# Altium schematic symbol library STMicroelectronics STM32 F0.SchLib: 55 symbols (part 1 of 5)
Pins are listed as number, name and electrical type; pins without a type are passive.

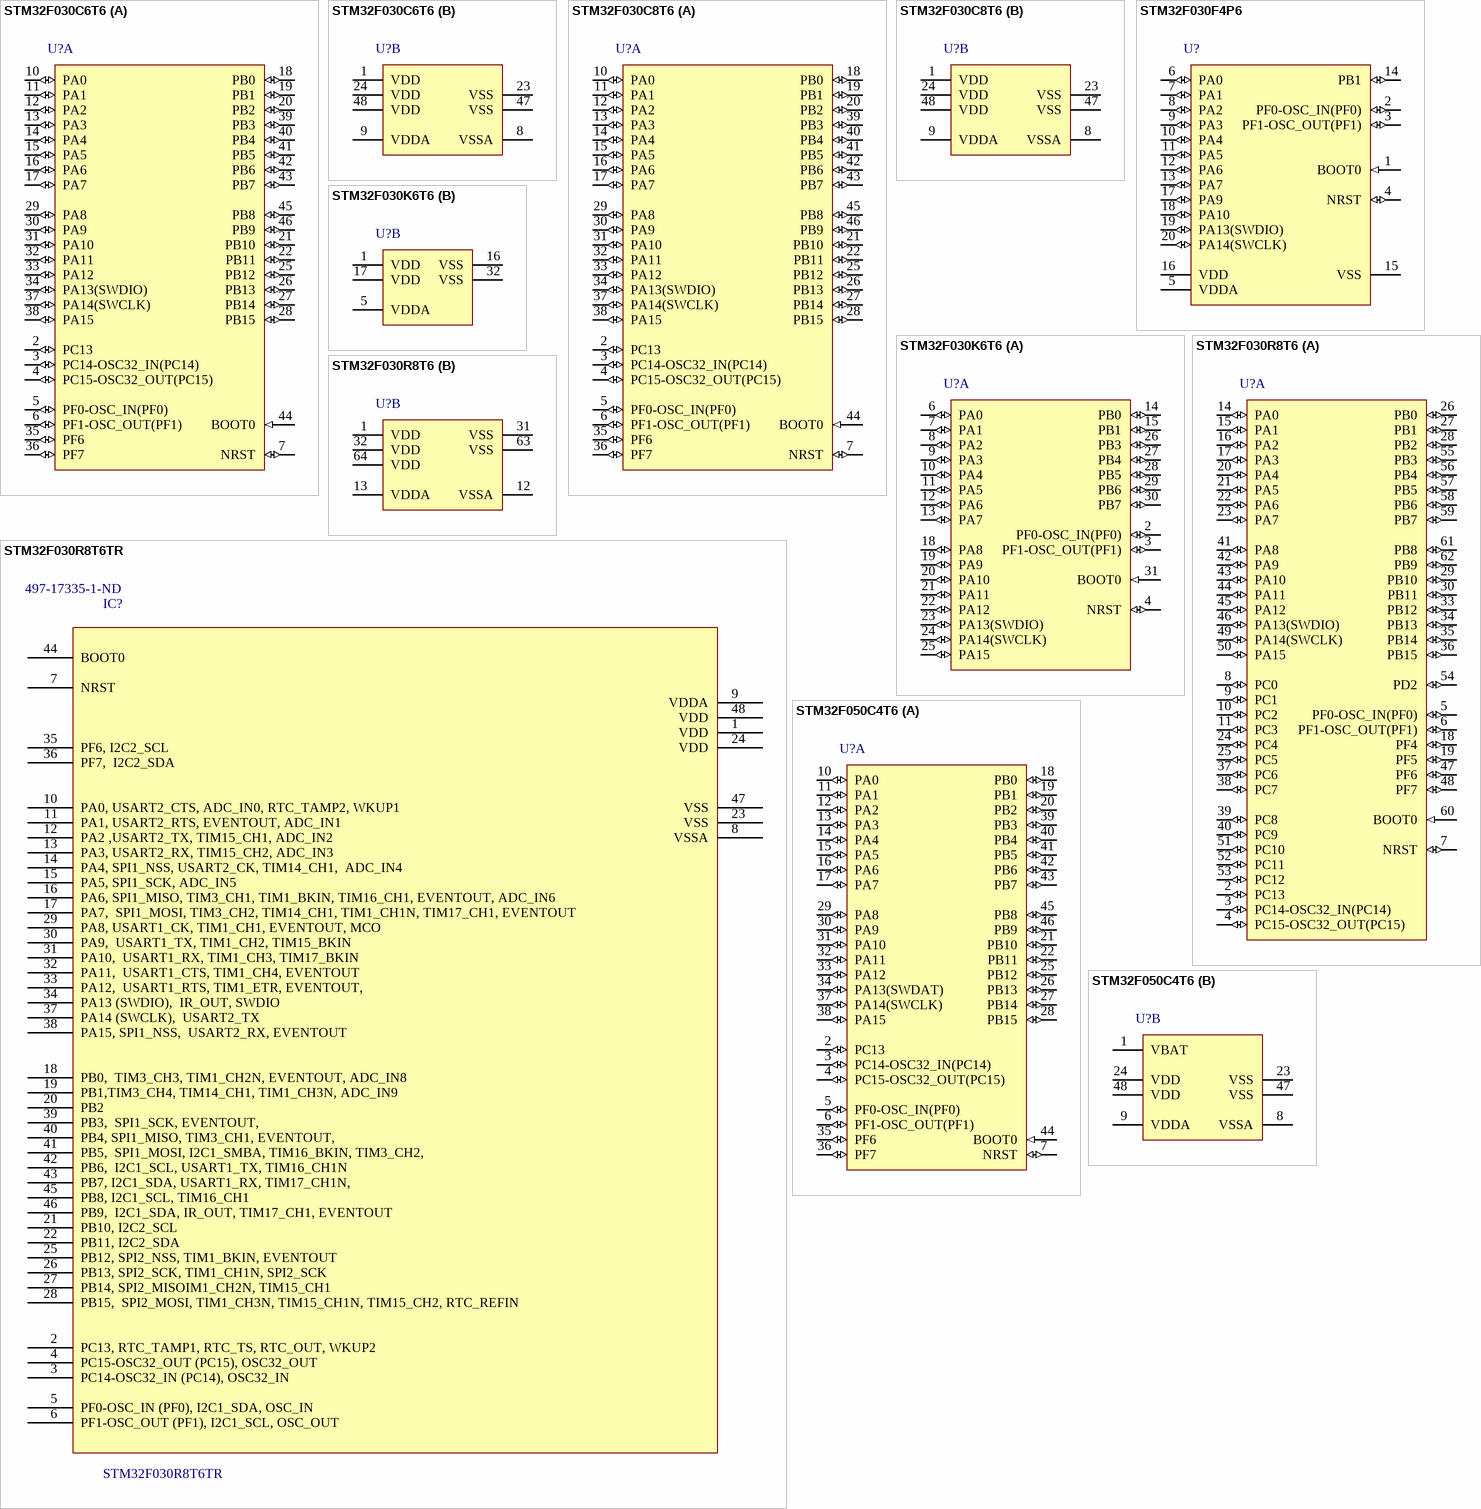
[diagram p0: symbols STM32F030C6T6 to STM32F050C4T6]

## STM32F030C6T6
designator U?
ARM Cortex-M0 32-bit MCU, 32 KB Flash, 4 KB Internal RAM, 39 I/Os, 48-pin LQFP, -40 to 85 degC, Tray; PartNumber: STM32F030C6T6; FLASH Size (Prog) (kB): 32; I/Os (High Current): 39; Internal RAM Size (kB): 4; Operating Frequency(F) (Processor speed) (MHz): 48; Supply Voltage(Vcc) min (V): 2.4; DatasheetVersion: Rev. 1; PackageVersion: Rev. 6, 06/2013; PackageReference: LQFP48; PackageDescription: 48-Pin Low Profile Quad Flat Package, 7 x 7 mm Body, 0.5 mm Pitch; Supplier 1: Digi-Key; Supplier Part Number 1: 497-14042-ND; Supplier 2: Newark; Supplier Part Number 2: 06X3646; Supplier 3: Mouser; Supplier Part Number 3: 511-STM32F030C6T6; Core: ARM Cortex-M0; Packing: Tray; Mounting Technology: Surface Mount; ComponentLink1Description: Manufacturer URL; ComponentLink1URL: http://www.st.com/web/en/home.html; ComponentLink2Description: Datasheet; ComponentLink2URL: http://www.st.com/st-web-ui/static/active/en/resource/technical/document/datasheet/DM00088500.pdf; ComponentLink3Description: Package Specification; ComponentLink3URL: http://www.st.com/st-web-ui/static/active/en/resource/technical/document/datasheet/DM00058181.pdf
footprint STM-LQFP48_N (QFP, 48-Leads, Body 7x7mm, Pitch 0.5mm, IPC Medium Density)
footprint STM-LQFP48_L (QFP, 48-Leads, Body 7x7mm, Pitch 0.5mm, IPC High Density)
footprint STM-LQFP48_M (QFP, 48-Leads, Body 7x7mm, Pitch 0.5mm, IPC Low Density)
part A pins: 2 PC13 (io) "PC13/RTC_TAMP1,RTC_TS,RTC_OUT,WKUP2", 3 PC14-OSC32_IN(PC14) (io) "PC14-OSC32_IN(PC14)/OSC32_IN", 4 PC15-OSC32_OUT(PC15) (io) "PC15-OSC32_OUT(PC15)/OSC32_OUT", 5 PF0-OSC_IN(PF0) (io) "PF0-OSC_IN(PF0)/OSC_IN", 6 PF1-OSC_OUT(PF1) (io) "PF1-OSC_OUT(PF1)/OSC_OUT", 7 NRST (io) "Device reset input / internal reset output (active low)", 10 PA0 (io) "PA0/USART1_CTS/ADC_IN0,RTC_TAMP2,WKUP1", 11 PA1 (io) "PA1/USART1_RTS,EVENTOUT/ADC_IN1", 12 PA2 (io) "PA2/USART1_TX/ADC_IN2", 13 PA3 (io) "PA3/USART1_RX/ADC_IN3", 14 PA4 (io) "PA4/SPI1_NSS,USART1_CK,TIM14_CH1/ADC_IN4", 15 PA5 (io) "PA5/SPI1_SCK/ADC_IN5", 16 PA6 (io) "PA6/SPI1_MISO,TIM3_CH1,TIM1_BKIN,TIM16_CH1,EVENTOUT/ADC_IN6", 17 PA7 (io) "PA7/SPI1_MOSI,TIM3_CH2,TIM14_CH1,TIM1_CH1N,TIM17_CH1,EVENTOUT/ADC_IN7", 18 PB0 (io) "PB0/TIM3_CH3,TIM1_CH2N,EVENTOUT/ADC_IN8", 19 PB1 (io) "PB1/TIM3_CH4,TIM14_CH1,TIM1_CH3N/ADC_IN9", 20 PB2 (io), 21 PB10 (io) "PB10/I2C1_SCL", 22 PB11 (io) "PB11/I2C1_SDA,EVENTOUT", 25 PB12 (io) "PB12/SPI1_NSS,TIM1_BKIN,EVENTOUT", 26 PB13 (io) "PB13/SPI1_SCK,TIM1_CH1N", 27 PB14 (io) "PB14/SPI1_MISO,TIM1_CH2N", 28 PB15 (io) "PB15/SPI1_MOSI,TIM1_CH3N/RTC_REFIN", 29 PA8 (io) "PA8/USART1_CK,TIM1_CH1,EVENTOUT,MCO", 30 PA9 (io) "PA9/USART1_TX,TIM1_CH2,I2C1_SCL", 31 PA10 (io) "PA10/USART1_RX,TIM1_CH3,TIM17_BKIN,I2C1_SDA", 32 PA11 (io) "PA11/USART1_CTS,TIM1_CH4,EVENTOUT", 33 PA12 (io) "PA12/USART1_RTS,TIM1_ETR,EVENTOUT", 34 PA13(SWDIO) (io) "PA13(SWDIO)/IR_OUT,SWDIO", 35 PF6 (io) "PF6/I2C1_SCL", 36 PF7 (io) "PF7/I2C1_SDA", 37 PA14(SWCLK) (io) "PA14(SWCLK)/USART1_TX,SWCLK", 38 PA15 (io) "PA15/SPI1_NSS,USART1_RX,EVENTOUT", 39 PB3 (io) "PB3/SPI1_SCK,EVENTOUT", 40 PB4 (io) "PB4/SPI1_MISO,TIM3_CH1,EVENTOUT", 41 PB5 (io) "PB5/SPI1_MOSI,I2C1_SMBA,TIM16_BKIN,TIM3_CH2", 42 PB6 (io) "PB6/I2C1_SCL,USART1_TX,TIM16_CH1N", 43 PB7 (io) "PB7/I2C1_SDA,USART1_RX,TIM17_CH1N", 44 BOOT0 (in) "Boot memory selection", 45 PB8 (io) "PB8/I2C1_SCL,TIM16_CH1", 46 PB9 (io) "PB9/I2C1_SDA,IR_OUT,TIM17_CH1,EVENTOUT"
part B pins: 1 VDD (power) "Complementary power supply", 8 VSSA (power) "Analog ground", 9 VDDA (power) "Analog power supply", 23 VSS (power) "Ground", 24 VDD (power) "Digital power supply", 47 VSS (power) "Ground", 48 VDD (power) "Digital power supply"

## STM32F030C8T6
designator U?
ARM Cortex-M0 32-bit MCU, 64 KB Flash, 8 KB Internal RAM, 39 I/Os, 48-pin LQFP, -40 to 85 degC, Tray; PartNumber: STM32F030C8T6; FLASH Size (Prog) (kB): 64; I/Os (High Current): 39; Internal RAM Size (kB): 8; Operating Frequency(F) (Processor speed) (MHz): 48; Supply Voltage(Vcc) min (V): 2.4; DatasheetVersion: Rev. 1; PackageVersion: Rev. 6, 06/2013; PackageReference: LQFP48; PackageDescription: 48-Pin Low Profile Quad Flat Package, 7 x 7 mm Body, 0.5 mm Pitch; Supplier 1: Digi-Key; Supplier Part Number 1: 497-14043-ND; Supplier 2: Newark; Supplier Part Number 2: 06X3647; Supplier 3: Mouser; Supplier Part Number 3: 511-STM32F030C8T6; Core: ARM Cortex-M0; Packing: Tray; Mounting Technology: Surface Mount; ComponentLink1Description: Manufacturer URL; ComponentLink1URL: http://www.st.com/web/en/home.html; ComponentLink2Description: Datasheet; ComponentLink2URL: http://www.st.com/st-web-ui/static/active/en/resource/technical/document/datasheet/DM00088500.pdf; ComponentLink3Description: Package Specification; ComponentLink3URL: http://www.st.com/st-web-ui/static/active/en/resource/technical/document/datasheet/DM00058181.pdf
footprint STM-LQFP48_N (QFP, 48-Leads, Body 7x7mm, Pitch 0.5mm, IPC Medium Density)
footprint STM-LQFP48_L (QFP, 48-Leads, Body 7x7mm, Pitch 0.5mm, IPC High Density)
footprint STM-LQFP48_M (QFP, 48-Leads, Body 7x7mm, Pitch 0.5mm, IPC Low Density)
part A pins: 2 PC13 (io) "PC13/RTC_TAMP1,RTC_TS,RTC_OUT,WKUP2", 3 PC14-OSC32_IN(PC14) (io) "PC14-OSC32_IN(PC14)/OSC32_IN", 4 PC15-OSC32_OUT(PC15) (io) "PC15-OSC32_OUT(PC15)/OSC32_OUT", 5 PF0-OSC_IN(PF0) (io) "PF0-OSC_IN(PF0)/OSC_IN", 6 PF1-OSC_OUT(PF1) (io) "PF1-OSC_OUT(PF1)/OSC_OUT", 7 NRST (io) "Device reset input / internal reset output (active low)", 10 PA0 (io) "PA0/USART2_CTS/ADC_IN0,RTC_TAMP2,WKUP1", 11 PA1 (io) "PA1/USART2_RTS,EVENTOUT/ADC_IN1", 12 PA2 (io) "PA2/USART2_TX,TIM15_CH1/ADC_IN2", 13 PA3 (io) "PA3/USART2_RX,TIM15_CH2/ADC_IN3", 14 PA4 (io) "PA4/SPI1_NSS/USART2_CK,TIM14_CH1/ADC_IN4", 15 PA5 (io) "PA5/SPI1_SCK/ADC_IN5", 16 PA6 (io) "PA6/SPI1_MISO,TIM3_CH1,TIM1_BKIN,TIM16_CH1,EVENTOUT/ADC_IN6", 17 PA7 (io) "PA7/SPI1_MOSI,TIM3_CH2,TIM14_CH1,TIM1_CH1N,TIM17_CH1,EVENTOUT/ADC_IN7", 18 PB0 (io) "PB0/TIM3_CH3,TIM1_CH2N,EVENTOUT/ADC_IN8", 19 PB1 (io) "PB1/TIM3_CH4,TIM14_CH1,TIM1_CH3N/ADC_IN9", 20 PB2 (io), 21 PB10 (io) "PB10/I2C2_SCL", 22 PB11 (io) "PB11/I2C2_SDA,EVENTOUT", 25 PB12 (io) "PB12/SPI2_NSS,TIM1_BKIN,EVENTOUT", 26 PB13 (io) "PB13/SPI2_SCK,TIM1_CH1N", 27 PB14 (io) "PB14/SPI2_MISO,TIM1_CH2N,TIM15_CH1", 28 PB15 (io) "PB15/SPI2_MOSI,TIM1_CH3N,TIM15_CH1N,TIM15_CH2/RTC_REFIN", 29 PA8 (io) "PA8/USART1_CK,TIM1_CH1,EVENTOUT,MCO", 30 PA9 (io) "PA9/USART1_TX,TIM1_CH2,TIM15_BKIN", 31 PA10 (io) "PA10/USART1_RX,TIM1_CH3,TIM17_BKIN", 32 PA11 (io) "PA11/USART1_CTS,TIM1_CH4,EVENTOUT", 33 PA12 (io) "PA12/USART1_RTS,TIM1_ETR,EVENTOUT", 34 PA13(SWDIO) (io) "PA13(SWDIO)/IR_OUT,SWDIO", 35 PF6 (io) "PF6/I2C2_SCL", 36 PF7 (io) "PF7/I2C2_SDA", 37 PA14(SWCLK) (io) "PA14(SWCLK)/USART2_TX,SWCLK", 38 PA15 (io) "PA15/SPI1_NSS,USART2_RX,EVENTOUT", 39 PB3 (io) "PB3/SPI1_SCK,EVENTOUT", 40 PB4 (io) "PB4/SPI1_MISO,TIM3_CH1,EVENTOUT", 41 PB5 (io) "PB5/SPI1_MOSI,I2C1_SMBA,TIM16_BKIN,TIM3_CH2", 42 PB6 (io) "PB6/I2C1_SCL,USART1_TX,TIM16_CH1N", 43 PB7 (io) "PB7/I2C1_SDA,USART1_RX,TIM17_CH1N", 44 BOOT0 (in) "Boot memory selection", 45 PB8 (io) "PB8/I2C1_SCL,TIM16_CH1", 46 PB9 (io) "PB9/I2C1_SDA,IR_OUT,TIM17_CH1,EVENTOUT"
part B pins: 1 VDD (power) "Digital power supply", 8 VSSA (power) "Analog ground", 9 VDDA (power) "Analog power supply", 23 VSS (power) "Ground", 24 VDD (power) "Digital power supply", 47 VSS (power) "Ground", 48 VDD (power) "Digital power supply"

## STM32F030F4P6
designator U?
ARM Cortex-M0 32-bit MCU, 16 KB Flash, 4 KB Internal RAM, 15 I/Os, 20-pin TSSOP, -40 to 85 degC, Tube; PartNumber: STM32F030F4P6; FLASH Size (Prog) (kB): 16; I/Os (High Current): 15; Internal RAM Size (kB): 4; Operating Frequency(F) (Processor speed) (MHz): 48; Supply Voltage(Vcc) min (V): 2.4; DatasheetVersion: Rev. 1; PackageVersion: Rev. 1, 11/2012; PackageReference: TSSOP20; PackageDescription: 20-Pin Thin Shrink Small Outline Package, 6.5 x 4.4 mm Body, 0.65 mm Pitch; Supplier 1: Digi-Key; Supplier Part Number 1: 497-14044-5-ND; Supplier 2: Newark; Supplier Part Number 2: 06X3648; Supplier 3: Mouser; Supplier Part Number 3: 511-STM32F030F4P6; Core: ARM Cortex-M0; Packing: Tube; Mounting Technology: Surface Mount; ComponentLink1Description: Manufacturer URL; ComponentLink1URL: http://www.st.com/web/en/home.html; ComponentLink2Description: Datasheet; ComponentLink2URL: http://www.st.com/st-web-ui/static/active/en/resource/technical/document/datasheet/DM00088500.pdf; ComponentLink3Description: Package Specification; ComponentLink3URL: http://www.st.com/st-web-ui/static/active/en/resource/technical/document/datasheet/DM00065136.pdf
footprint STM-TSSOP20_N (SOP, 20-Leads, Body 6.6x4.5mm, Pitch 0.65mm, IPC Medium Density)
footprint STM-TSSOP20_L (SOP, 20-Leads, Body 6.6x4.5mm, Pitch 0.65mm, IPC High Density)
footprint STM-TSSOP20_M (SOP, 20-Leads, Body 6.6x4.5mm, Pitch 0.65mm, IPC Low Density)
pins: 1 BOOT0 (in) "Boot memory selection", 2 PF0-OSC_IN(PF0) (io) "PF0-OSC_IN(PF0)/OSC_IN", 3 PF1-OSC_OUT(PF1) (io) "PF1-OSC_OUT(PF1)/OSC_OUT", 4 NRST (io) "Device reset input / internal reset output (active low)", 5 VDDA (power) "Analog power supply", 6 PA0 (io) "PA0/USART1_CTS/ADC_IN0,RTC_TAMP2,WKUP1", 7 PA1 (io) "PA1/USART1_RTS,EVENTOUT/ADC_IN1", 8 PA2 (io) "PA2/USART1_TX/ADC_IN2", 9 PA3 (io) "PA3/USART1_RX/ADC_IN3", 10 PA4 (io) "PA4/SPI1_NSS,USART1_CK,TIM14_CH1/ADC_IN4", 11 PA5 (io) "PA5/SPI1_SCK/ADC_IN5", 12 PA6 (io) "PA6/SPI1_MISO,TIM3_CH1,TIM1_BKIN,TIM16_CH1,EVENTOUT/ADC_IN6", 13 PA7 (io) "PA7/SPI1_MOSI,TIM3_CH2,TIM14_CH1,TIM1_CH1N,TIM17_CH1,EVENTOUT/ADC_IN7", 14 PB1 (io) "PB1/TIM3_CH4,TIM14_CH1,TIM1_CH3N/ADC_IN9", 15 VSS (power) "Ground", 16 VDD (power) "Digital power supply", 17 PA9 (io) "PA9/USART1_TX,TIM1_CH2,I2C1_SCL", 18 PA10 (io) "PA10/USART1_RX,TIM1_CH3,TIM17_BKIN,I2C1_SDA", 19 PA13(SWDIO) (io) "PA13(SWDIO)/IR_OUT,SWDIO", 20 PA14(SWCLK) (io) "PA14(SWCLK)/USART1_TX,SWCLK"

## STM32F030K6T6
designator U?
ARM Cortex-M0 32-bit MCU, 32 KB Flash, 4 KB Internal RAM, 26 I/Os, 32-pin LQFP, -40 to 85 degC, Tray; PartNumber: STM32F030K6T6; FLASH Size (Prog) (kB): 32; I/Os (High Current): 26; Internal RAM Size (kB): 4; Operating Frequency(F) (Processor speed) (MHz): 48; Supply Voltage(Vcc) min (V): 2.4; DatasheetVersion: Rev. 1; PackageVersion: Rev. 1, 07/2013; PackageReference: LQFP32; PackageDescription: 32-Pin Low Profile Quad Flat Package, 7 x 7 mm Body, 0.8 mm Pitch; Supplier 1: Digi-Key; Supplier Part Number 1: 497-14046-ND; Supplier 2: Newark; Supplier Part Number 2: 19X6194; Supplier 3: Mouser; Supplier Part Number 3: 511-STM32F030K6T6; Core: ARM Cortex-M0; Packing: Tray; Mounting Technology: Surface Mount; ComponentLink1Description: Manufacturer URL; ComponentLink1URL: http://www.st.com/web/en/home.html; ComponentLink2Description: Datasheet; ComponentLink2URL: http://www.st.com/st-web-ui/static/active/en/resource/technical/document/datasheet/DM00088500.pdf; ComponentLink3Description: Package Specification; ComponentLink3URL: http://www.st.com/st-web-ui/static/active/en/resource/technical/document/datasheet/DM00088500.pdf
footprint STM-LQFP32_N (QFP, 32-Leads, Body 7x7mm, Pitch 0.8mm, IPC Medium Density)
footprint STM-LQFP32_L (QFP, 32-Leads, Body 7x7mm, Pitch 0.8mm, IPC High Density)
footprint STM-LQFP32_M (QFP, 32-Leads, Body 7x7mm, Pitch 0.8mm, IPC Low Density)
part A pins: 2 PF0-OSC_IN(PF0) (io) "PF0-OSC_IN(PF0)/OSC_IN", 3 PF1-OSC_OUT(PF1) (io) "PF1-OSC_OUT(PF1)/OSC_OUT", 4 NRST (io) "Device reset input / internal reset output (active low)", 6 PA0 (io) "PA0/USART1_CTS/ADC_IN0,RTC_TAMP2,WKUP1", 7 PA1 (io) "PA1/USART1_RTS,EVENTOUT/ADC_IN1", 8 PA2 (io) "PA2/USART1_TX/ADC_IN2", 9 PA3 (io) "PA3/USART1_RX/ADC_IN3", 10 PA4 (io) "PA4/SPI1_NSS,USART1_CK,TIM14_CH1/ADC_IN4", 11 PA5 (io) "PA5/SPI1_SCK/ADC_IN5", 12 PA6 (io) "PA6/SPI1_MISO,TIM3_CH1,TIM1_BKIN,TIM16_CH1,EVENTOUT/ADC_IN6", 13 PA7 (io) "PA7/SPI1_MOSI,TIM3_CH2,TIM14_CH1,TIM1_CH1N,TIM17_CH1,EVENTOUT/ADC_IN7", 14 PB0 (io) "PB0/TIM3_CH3,TIM1_CH2N,EVENTOUT/ADC_IN8", 15 PB1 (io) "PB1/TIM3_CH4,TIM14_CH1,TIM1_CH3N/ADC_IN9", 18 PA8 (io) "PA8/USART1_CK,TIM1_CH1,EVENTOUT,MCO", 19 PA9 (io) "PA9/USART1_TX,TIM1_CH2,I2C1_SCL", 20 PA10 (io) "PA10/USART1_RX,TIM1_CH3,TIM17_BKIN,I2C1_SDA", 21 PA11 (io) "PA11/USART1_CTS,TIM1_CH4,EVENTOUT", 22 PA12 (io) "PA12/USART1_RTS,TIM1_ETR,EVENTOUT", 23 PA13(SWDIO) (io) "PA13(SWDIO)/IR_OUT,SWDIO", 24 PA14(SWCLK) (io) "PA14(SWCLK)/USART1_TX,SWCLK", 25 PA15 (io) "PA15/SPI1_NSS,USART1_RX,EVENTOUT", 26 PB3 (io) "PB3/SPI1_SCK,EVENTOUT", 27 PB4 (io) "PB4/SPI1_MISO,TIM3_CH1,EVENTOUT", 28 PB5 (io) "PB5/SPI1_MOSI,I2C1_SMBA,TIM16_BKIN,TIM3_CH2", 29 PB6 (io) "PB6/I2C1_SCL,USART1_TX,TIM16_CH1N", 30 PB7 (io) "PB7/I2C1_SDA,USART1_RX,TIM17_CH1N", 31 BOOT0 (in) "Boot memory selection"
part B pins: 1 VDD (power) "Digital power supply", 5 VDDA (power) "Analog power supply", 16 VSS (power) "Ground", 17 VDD (power) "Digital power supply", 32 VSS (power) "Ground"

## STM32F030R8T6
designator U?
ARM Cortex-M0 32-bit MCU, 64 KB Flash, 8 KB Internal RAM, 55 I/Os, 64-pin LQFP, -40 to 85 degC, Tray; PartNumber: STM32F030R8T6; FLASH Size (Prog) (kB): 64; I/Os (High Current): 55; Internal RAM Size (kB): 8; Operating Frequency(F) (Processor speed) (MHz): 48; Supply Voltage(Vcc) min (V): 2.4; DatasheetVersion: Rev. 1; PackageVersion: Rev. 4, 06/2013; PackageReference: LQFP64; PackageDescription: 64-Pin Low Profile Quad Flat Package, 10 x 10 mm Body, 0.5 mm Pitch; Supplier 1: Digi-Key; Supplier Part Number 1: 497-14045-ND; Supplier 2: Newark; Supplier Part Number 2: 06X3649; Supplier 3: Mouser; Supplier Part Number 3: 511-STM32F030R8T6; Core: ARM Cortex-M0; Packing: Tray; Mounting Technology: Surface Mount; ComponentLink1Description: Manufacturer URL; ComponentLink1URL: http://www.st.com/web/en/home.html; ComponentLink2Description: Datasheet; ComponentLink2URL: http://www.st.com/st-web-ui/static/active/en/resource/technical/document/datasheet/DM00088500.pdf; ComponentLink3Description: Package Specification; ComponentLink3URL: http://www.st.com/st-web-ui/static/active/en/resource/technical/document/datasheet/DM00037051.pdf
footprint STM-LQFP64_N (Thin QFP, 64-Leads, Body 10x10mm, Pitch 0.5mm, IPC Medium Density)
footprint STM-LQFP64_L (Thin QFP, 64-Leads, Body 10x10mm, Pitch 0.5mm, IPC High Density)
footprint STM-LQFP64_M (Thin QFP, 64-Leads, Body 10x10mm, Pitch 0.5mm, IPC Low Density)
footprint STM-LQFP64_V (Thin QFP, 64-Leads, Body 10x10mm, Pitch 0.5mm, ST Recommended)
part A pins: 2 PC13 (io), 3 PC14-OSC32_IN(PC14) (io), 4 PC15-OSC32_OUT(PC15) (io), 5 PF0-OSC_IN(PF0) (io), 6 PF1-OSC_OUT(PF1) (io), 7 NRST (io) "Device reset input / internal reset output (active low)", 8 PC0 (io) "PC0/EVENTOUT/ADC_IN10", 9 PC1 (io) "PC1/EVENTOUT/ADC_IN11", 10 PC2 (io) "PC2/EVENTOUT/ADC_IN12", 11 PC3 (io) "PC3/EVENTOUT/ADC_IN13", 14 PA0 (io) "PA0/USART2_CTS/ADC_IN0,RTC_TAMP2,WKUP1", 15 PA1 (io) "PA1/USART2_RTS,EVENTOUT/ADC_IN1", 16 PA2 (io) "PA2/USART2_TX,TIM15_CH1/ADC_IN2", 17 PA3 (io) "PA3/USART2_RX,TIM15_CH2/ADC_IN3", 18 PF4 (io) "PF4/EVENTOUT", 19 PF5 (io) "PF5/EVENTOUT", 20 PA4 (io) "PA4/SPI1_NSS,USART2_CK,TIM14_CH1/ADC_IN4", 21 PA5 (io) "PA5/SPI1_SCK/ADC_IN5", 22 PA6 (io) "PA6/SPI1_MISO,TIM3_CH1,TIM1_BKIN,TIM16_CH1,EVENTOUT/ADC_IN6", 23 PA7 (io) "PA7/SPI1_MOSI,TIM3_CH2,TIM14_CH1,TIM1_CH1N,TIM17_CH1,EVENTOUT/ADC_IN7", 24 PC4 (io) "PC4/EVENTOUT/ADC_IN14", 25 PC5 (io) "PC5/ADC_IN15", 26 PB0 (io) "PB0/TIM3_CH3,TIM1_CH2N,EVENTOUT/ADC_IN8", 27 PB1 (io) "PB1/TIM3_CH4,TIM14_CH1,TIM1_CH3N/ADC_IN9", 28 PB2 (io), 29 PB10 (io) "PB10/I2C2_SCL", 30 PB11 (io) "PB11/I2C2_SDA,EVENTOUT", 33 PB12 (io) "PB12/SPI2_NSS,TIM1_BKIN,EVENTOUT", 34 PB13 (io) "PB13/SPI2_SCK,TIM1_CH1N", 35 PB14 (io) "PB14/SPI2_MISO,TIM1_CH2N,TIM15_CH1", 36 PB15 (io) "PB15/SPI2_MOSI,TIM1_CH3N,TIM15_CH1N,TIM15_CH2/RTC_REFIN", 37 PC6 (io) "PC6/TIM3_CH1", 38 PC7 (io) "PC7/TIM3_CH2", 39 PC8 (io) "PC8/TIM3_CH3", 40 PC9 (io) "PC9/TIM3_CH4", 41 PA8 (io) "PA8/USART1_CK,TIM1_CH1,EVENTOUT,MCO", 42 PA9 (io) "PA9/USART1_TX,TIM1_CH2,TIM15_BKIN", 43 PA10 (io) "PA10/USART1_RX,TIM1_CH3,TIM17_BKIN", 44 PA11 (io) "PA11/USART1_CTS,TIM1_CH4,EVENTOUT", 45 PA12 (io) "PA12/USART1_RTS,TIM1_ETR,EVENTOUT", 46 PA13(SWDIO) (io) "PA13(SWDIO)/IR_OUT,SWDIO", 47 PF6 (io) "PF6/I2C2_SCL", 48 PF7 (io) "PF7/I2C2_SDA", 49 PA14(SWCLK) (io) "PA14(SWCLK)/USART2_TX,SWCLK", 50 PA15 (io) "PA15/SPI1_NSS,USART2_RX,EVENTOUT", 51 PC10 (io), 52 PC11 (io), 53 PC12 (io), 54 PD2 (io) "PD2/TIM3_ETR", 55 PB3 (io) "PB3/SPI1_SCK,EVENTOUT", 56 PB4 (io) "PB4/SPI1_MISO,TIM3_CH1,EVENTOUT", 57 PB5 (io) "PB5/SPI1_MOSI,I2C1_SMBA,TIM16_BKIN,TIM3_CH2", 58 PB6 (io) "PB6/I2C1_SCL,USART1_TX,TIM16_CH1N", 59 PB7 (io) "PB7/I2C1_SDA,USART1_RX,TIM17_CH1N", 60 BOOT0 (in) "Boot memory selection", 61 PB8 (io) "PB8/I2C1_SCL,TIM16_CH1", 62 PB9 (io) "PB9/I2C1_SDA,IR_OUT,TIM17_CH1,EVENTOUT"
part B pins: 1 VDD (power) "Complementary power supply", 12 VSSA (power) "Analog ground", 13 VDDA (power) "Analog power supply", 31 VSS (power) "Ground", 32 VDD (power) "Digital power supply", 63 VSS (power) "Ground", 64 VDD (power) "Digital power supply"

## STM32F030R8T6TR
designator IC?  Supplier Part Number 1: 497-17335-1-ND
ARM® Cortex®-M0 STM32F0 Microcontroller IC 32-Bit 48MHz 64KB (64K x 8) FLASH 64-LQFP (10x10); Supplier 1: Digi-Key
footprint STM-LQFP48_L (QFP, 48-Leads, Body 7x7mm, Pitch 0.5mm, IPC High Density)
footprint STM-LQFP48_M (QFP, 48-Leads, Body 7x7mm, Pitch 0.5mm, IPC Low Density)
footprint STM-LQFP48_N (QFP, 48-Leads, Body 7x7mm, Pitch 0.5mm, IPC Medium Density)
pins: 1 VDD, 2 PC13, RTC_TAMP1, RTC_TS, RTC_OUT, WKUP2, 3 PC14-OSC32_IN (PC14), OSC32_IN, 4 PC15-OSC32_OUT (PC15), OSC32_OUT, 5 PF0-OSC_IN (PF0), I2C1_SDA, OSC_IN, 6 PF1-OSC_OUT (PF1), I2C1_SCL, OSC_OUT, 7 NRST, 8 VSSA, 9 VDDA, 10 PA0, USART2_CTS, ADC_IN0, RTC_TAMP2, WKUP1, 11 PA1, USART2_RTS, EVENTOUT, ADC_IN1, 12 PA2 ,USART2_TX, TIM15_CH1, ADC_IN2, 13 PA3, USART2_RX, TIM15_CH2, ADC_IN3, 14 PA4, SPI1_NSS, USART2_CK, TIM14_CH1,  ADC_IN4, 15 PA5, SPI1_SCK, ADC_IN5, 16 PA6, SPI1_MISO, TIM3_CH1, TIM1_BKIN, TIM16_CH1, EVENTOUT, ADC_IN6, 17 PA7,  SPI1_MOSI, TIM3_CH2, TIM14_CH1, TIM1_CH1N, TIM17_CH1, EVENTOUT, 18 PB0,  TIM3_CH3, TIM1_CH2N, EVENTOUT, ADC_IN8, 19 PB1,TIM3_CH4, TIM14_CH1, TIM1_CH3N, ADC_IN9, 20 PB2, 21 PB10, I2C2_SCL, 22 PB11, I2C2_SDA, 23 VSS, 24 VDD, 25 PB12, SPI2_NSS, TIM1_BKIN, EVENTOUT, 26 PB13, SPI2_SCK, TIM1_CH1N, SPI2_SCK, 27 PB14, SPI2_MISOIM1_CH2N, TIM15_CH1, 28 PB15,  SPI2_MOSI, TIM1_CH3N, TIM15_CH1N, TIM15_CH2, RTC_REFIN, 29 PA8, USART1_CK, TIM1_CH1, EVENTOUT, MCO, 30 PA9,  USART1_TX, TIM1_CH2, TIM15_BKIN, 31 PA10,  USART1_RX, TIM1_CH3, TIM17_BKIN, 32 PA11,  USART1_CTS, TIM1_CH4, EVENTOUT, 33 PA12,  USART1_RTS, TIM1_ETR, EVENTOUT,, 34 PA13 (SWDIO),  IR_OUT, SWDIO, 35 PF6, I2C2_SCL, 36 PF7,  I2C2_SDA, 37 PA14 (SWCLK),  USART2_TX, 38 PA15, SPI1_NSS,  USART2_RX, EVENTOUT, 39 PB3,  SPI1_SCK, EVENTOUT,, 40 PB4, SPI1_MISO, TIM3_CH1, EVENTOUT,, 41 PB5,  SPI1_MOSI, I2C1_SMBA, TIM16_BKIN, TIM3_CH2,, 42 PB6,  I2C1_SCL, USART1_TX, TIM16_CH1N, 43 PB7, I2C1_SDA, USART1_RX, TIM17_CH1N,, 44 BOOT0, 45 PB8, I2C1_SCL, TIM16_CH1, 46 PB9,  I2C1_SDA, IR_OUT, TIM17_CH1, EVENTOUT, 47 VSS, 48 VDD

## STM32F050C4T6
designator U?
ARM Cortex-M0 32-bit MCU, 16 KB Flash, 4 KB Internal RAM, 39 I/Os, 48-pin LQFP, -40 to 85 degC, Tray; PartNumber: STM32F050C4T6; FLASH Size (Prog) (kB): 16; I/Os (High Current): 39; Internal RAM Size (kB): 4; Operating Frequency(F) (Processor speed) (MHz): 48; Supply Voltage(Vcc) min (V): 2; DatasheetVersion: Rev. 1; PackageVersion: Rev. 6, 06/2013; PackageReference: LQFP48; PackageDescription: 48-Pin Low Profile Quad Flat Package, 7 x 7 mm Body, 0.5 mm Pitch; Supplier 1: Digi-Key; Supplier Part Number 1: 497-13617-ND; Supplier 2: Farnell; Supplier Part Number 2: 2333133; Supplier 3: Newark; Supplier Part Number 3: 99W9745; Supplier 4: Newark; Supplier Part Number 4: 48W6862; Supplier 5: Mouser; Supplier Part Number 5: 511-STM32F050C4T6; Core: ARM Cortex-M0; Packing: Tray; Mounting Technology: Surface Mount; ComponentLink1Description: Manufacturer URL; ComponentLink1URL: http://www.st.com/web/en/home.html; ComponentLink2Description: Datasheet; ComponentLink2URL: http://www.st.com/st-web-ui/static/active/en/resource/technical/document/datasheet/DM00065136.pdf; ComponentLink3Description: Package Specification; ComponentLink3URL: http://www.st.com/st-web-ui/static/active/en/resource/technical/document/datasheet/DM00058181.pdf
footprint STM-LQFP48_N (QFP, 48-Leads, Body 7x7mm, Pitch 0.5mm, IPC Medium Density)
footprint STM-LQFP48_L (QFP, 48-Leads, Body 7x7mm, Pitch 0.5mm, IPC High Density)
footprint STM-LQFP48_M (QFP, 48-Leads, Body 7x7mm, Pitch 0.5mm, IPC Low Density)
part A pins: 2 PC13 (io) "PC13/RTC_TAMP1,RTC_TS,RTC_OUT,WKUP2", 3 PC14-OSC32_IN(PC14) (io) "PC14-OSC32_IN(PC14)/OSC32_IN", 4 PC15-OSC32_OUT(PC15) (io) "PC15-OSC32_OUT(PC15)/OSC32_OUT", 5 PF0-OSC_IN(PF0) (io) "PF0-OSC_IN(PF0)/OSC_IN", 6 PF1-OSC_OUT(PF1) (io) "PF1-OSC_OUT(PF1)/OSC_OUT", 7 NRST (io) "Device reset input / internal reset output (active low)", 10 PA0 (io) "PA0/TIM2_CH1_ETR,USART1_CTS/ADC_IN0,RTC_TAMP2,WKUP1", 11 PA1 (io) "PA1/TIM2_CH2,EVENTOUT,USART1_RTS/ADC_IN1", 12 PA2 (io) "PA2/TIM2_CH3,USART1_TX/ADC_IN2", 13 PA3 (io) "PA3/TIM2_CH4,USART1_RX/ADC_IN3", 14 PA4 (io) "PA4/SPI1_NSS,I2S1_WS,TIM14_CH1,USART1_CK/ADC_IN4", 15 PA5 (io) "PA5/SPI1_SCK,I2S1_CK,TIM2_CH1_ETR/ADC_IN5", 16 PA6 (io) "PA6/SPI1_MISO,I2S1_MCK,TIM3_CH1,TIM1_BKIN,TIM16_CH1,EVENTOUT/ADC_IN6", 17 PA7 (io) "PA7/SPI1_MOSI,I2S1_SD,TIM3_CH2,TIM14_CH1,TIM1_CH1N,TIM17_CH1,EVENTOUT/ADC_IN7", 18 PB0 (io) "PB0/TIM3_CH3,TIM1_CH2N,EVENTOUT/ADC_IN8", 19 PB1 (io) "PB1/TIM3_CH4,TIM14_CH1,TIM1_CH3N/ADC_IN9", 20 PB2 (io), 21 PB10 (io) "PB10/TIM2_CH3,I2C1_SCL", 22 PB11 (io) "PB11/TIM2_CH4,EVENTOUT,I2C1_SDA", 25 PB12 (io) "PB12/TIM1_BKIN,EVENTOUT,SPI1_NSS", 26 PB13 (io) "PB13/TIM1_CH1N,SPI1_SCK", 27 PB14 (io) "PB14/TIM1_CH2N,SPI1_MISO", 28 PB15 (io) "PB15/TIM1_CH3N,SPI1_MOSI/RTC_REFIN", 29 PA8 (io) "PA8/USART1_CK,TIM1_CH1,EVENTOUT,MCO", 30 PA9 (io) "PA9/USART1_TX,TIM1_CH2,I2C1_SCL", 31 PA10 (io) "PA10/USART1_RX,TIM1_CH3,TIM17_BKIN,I2C1_SDA", 32 PA11 (io) "PA11/USART1_CTS,TIM1_CH4,EVENTOUT", 33 PA12 (io) "PA12/USART1_RTS,TIM1_ETR,EVENTOUT", 34 PA13(SWDAT) (io) "PA13(SWDAT)/IR_OUT,SWDAT", 35 PF6 (io) "PF6/I2C1_SCL", 36 PF7 (io) "PF7/I2C1_SDA", 37 PA14(SWCLK) (io) "PA14(SWCLK)/SWCLK,USART1_TX", 38 PA15 (io) "PA15/SPI1_NSS,I2S1_WS,TIM2_CH_ETR,EVENTOUT,USART1_RX", 39 PB3 (io) "PB3/SPI1_SCK,I2S1_CK,TIM2_CH2,EVENTOUT", 40 PB4 (io) "PB4/SPI1_MISO,I2S1_MCK,TIM3_CH1,EVENTOUT", 41 PB5 (io) "PB5/SPI1_MOSI,I2S1_SD,I2C1_SMBA,TIM16_BKIN,TIM3_CH2", 42 PB6 (io) "PB6/I2C1_SCL,USART1_TX,TIM16_CH1N", 43 PB7 (io) "PB7/I2C1_SDA,USART1_RX,TIM17_CH1N", 44 BOOT0 (in) "Boot memory selection", 45 PB8 (io) "PB8/I2C1_SCL,TIM16_CH1", 46 PB9 (io) "PB9/I2C1_SDA,IR_OUT,TIM17_CH1,EVENTOUT"
part B pins: 1 VBAT (power) "Backup power supply", 8 VSSA (power) "Analog ground", 9 VDDA (power) "Analog power supply", 23 VSS (power) "Ground", 24 VDD (power) "Digital power supply", 47 VSS (power) "Ground", 48 VDD (power) "Digital power supply"

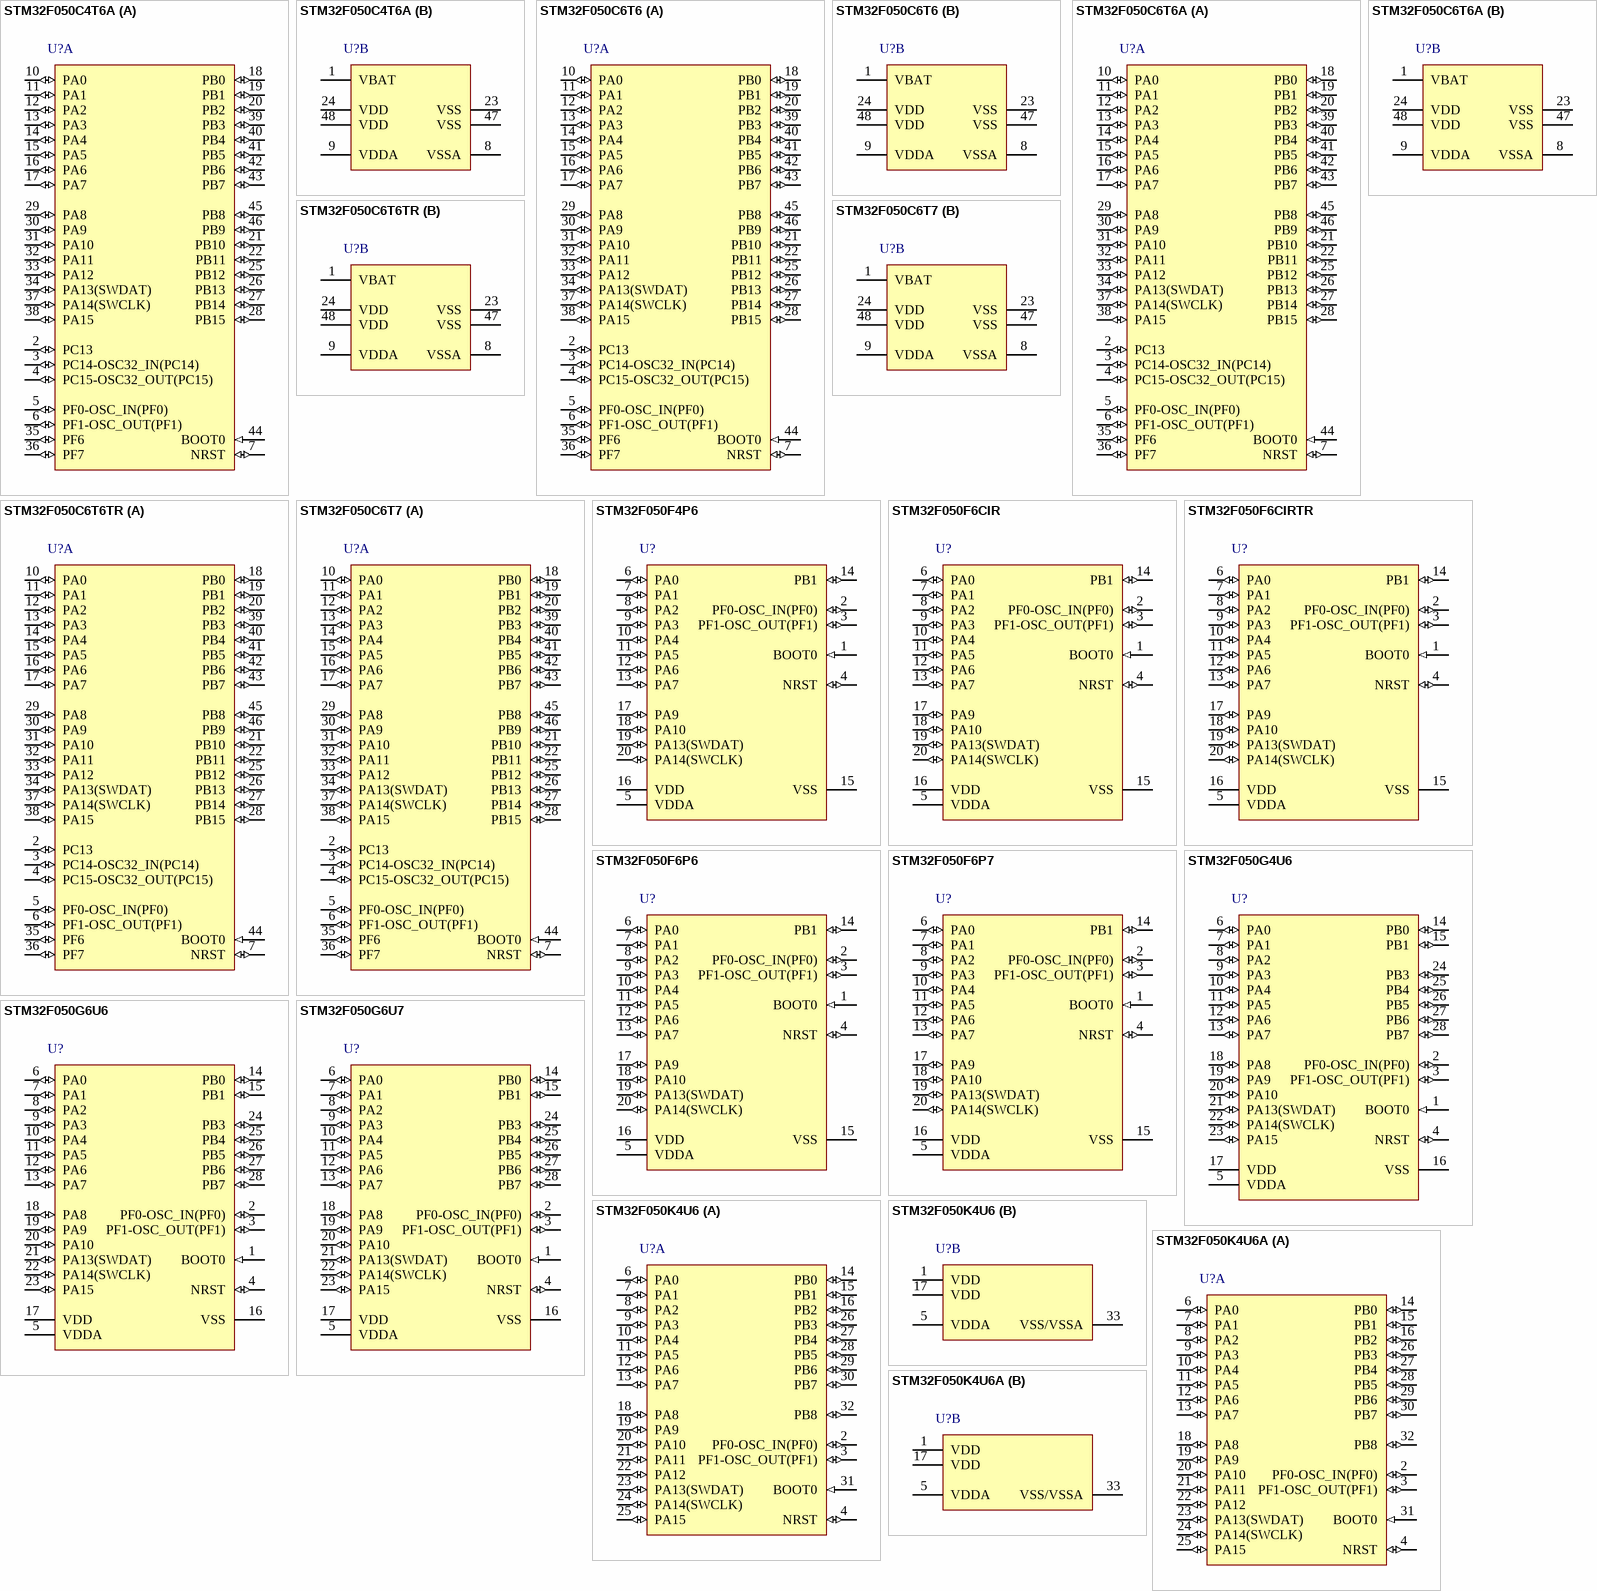
[diagram p1: symbols STM32F050C4T6A to STM32F050K4U6A]

## STM32F050C4T6A
designator U?
ARM Cortex-M0 32-bit MCU, 16 KB Flash, 4 KB Internal RAM, 39 I/Os, 48-pin LQFP, -40 to 85 degC, Tray; PartNumber: STM32F050C4T6A; FLASH Size (Prog) (kB): 16; I/Os (High Current): 39; Internal RAM Size (kB): 4; Operating Frequency(F) (Processor speed) (MHz): 48; Supply Voltage(Vcc) min (V): 2; DatasheetVersion: Rev. 1; PackageVersion: Rev. 6, 06/2013; PackageReference: LQFP48; PackageDescription: 48-Pin Low Profile Quad Flat Package, 7 x 7 mm Body, 0.5 mm Pitch; Supplier 1: Digi-Key; Supplier Part Number 1: 497-12943-ND; Supplier 2: Newark; Supplier Part Number 2: 90T0634; Supplier 3: Mouser; Supplier Part Number 3: 511-STM32F050C4T6A; Core: ARM Cortex-M0; Packing: Tray; Mounting Technology: Surface Mount; ComponentLink1Description: Manufacturer URL; ComponentLink1URL: http://www.st.com/web/en/home.html; ComponentLink2Description: Datasheet; ComponentLink2URL: http://www.st.com/st-web-ui/static/active/en/resource/technical/document/datasheet/DM00065136.pdf; ComponentLink3Description: Package Specification; ComponentLink3URL: http://www.st.com/st-web-ui/static/active/en/resource/technical/document/datasheet/DM00058181.pdf
footprint STM-LQFP48_N (QFP, 48-Leads, Body 7x7mm, Pitch 0.5mm, IPC Medium Density)
footprint STM-LQFP48_L (QFP, 48-Leads, Body 7x7mm, Pitch 0.5mm, IPC High Density)
footprint STM-LQFP48_M (QFP, 48-Leads, Body 7x7mm, Pitch 0.5mm, IPC Low Density)
part A pins: 2 PC13 (io) "PC13/RTC_TAMP1,RTC_TS,RTC_OUT,WKUP2", 3 PC14-OSC32_IN(PC14) (io) "PC14-OSC32_IN(PC14)/OSC32_IN", 4 PC15-OSC32_OUT(PC15) (io) "PC15-OSC32_OUT(PC15)/OSC32_OUT", 5 PF0-OSC_IN(PF0) (io) "PF0-OSC_IN(PF0)/OSC_IN", 6 PF1-OSC_OUT(PF1) (io) "PF1-OSC_OUT(PF1)/OSC_OUT", 7 NRST (io) "Device reset input / internal reset output (active low)", 10 PA0 (io) "PA0/TIM2_CH1_ETR,USART1_CTS/ADC_IN0,RTC_TAMP2,WKUP1", 11 PA1 (io) "PA1/TIM2_CH2,EVENTOUT,USART1_RTS/ADC_IN1", 12 PA2 (io) "PA2/TIM2_CH3,USART1_TX/ADC_IN2", 13 PA3 (io) "PA3/TIM2_CH4,USART1_RX/ADC_IN3", 14 PA4 (io) "PA4/SPI1_NSS,I2S1_WS,TIM14_CH1,USART1_CK/ADC_IN4", 15 PA5 (io) "PA5/SPI1_SCK,I2S1_CK,TIM2_CH1_ETR/ADC_IN5", 16 PA6 (io) "PA6/SPI1_MISO,I2S1_MCK,TIM3_CH1,TIM1_BKIN,TIM16_CH1,EVENTOUT/ADC_IN6", 17 PA7 (io) "PA7/SPI1_MOSI,I2S1_SD,TIM3_CH2,TIM14_CH1,TIM1_CH1N,TIM17_CH1,EVENTOUT/ADC_IN7", 18 PB0 (io) "PB0/TIM3_CH3,TIM1_CH2N,EVENTOUT/ADC_IN8", 19 PB1 (io) "PB1/TIM3_CH4,TIM14_CH1,TIM1_CH3N/ADC_IN9", 20 PB2 (io), 21 PB10 (io) "PB10/TIM2_CH3,I2C1_SCL", 22 PB11 (io) "PB11/TIM2_CH4,EVENTOUT,I2C1_SDA", 25 PB12 (io) "PB12/TIM1_BKIN,EVENTOUT,SPI1_NSS", 26 PB13 (io) "PB13/TIM1_CH1N,SPI1_SCK", 27 PB14 (io) "PB14/TIM1_CH2N,SPI1_MISO", 28 PB15 (io) "PB15/TIM1_CH3N,SPI1_MOSI/RTC_REFIN", 29 PA8 (io) "PA8/USART1_CK,TIM1_CH1,EVENTOUT,MCO", 30 PA9 (io) "PA9/USART1_TX,TIM1_CH2,I2C1_SCL", 31 PA10 (io) "PA10/USART1_RX,TIM1_CH3,TIM17_BKIN,I2C1_SDA", 32 PA11 (io) "PA11/USART1_CTS,TIM1_CH4,EVENTOUT", 33 PA12 (io) "PA12/USART1_RTS,TIM1_ETR,EVENTOUT", 34 PA13(SWDAT) (io) "PA13(SWDAT)/IR_OUT,SWDAT", 35 PF6 (io) "PF6/I2C1_SCL", 36 PF7 (io) "PF7/I2C1_SDA", 37 PA14(SWCLK) (io) "PA14(SWCLK)/SWCLK,USART1_TX", 38 PA15 (io) "PA15/SPI1_NSS,I2S1_WS,TIM2_CH_ETR,EVENTOUT,USART1_RX", 39 PB3 (io) "PB3/SPI1_SCK,I2S1_CK,TIM2_CH2,EVENTOUT", 40 PB4 (io) "PB4/SPI1_MISO,I2S1_MCK,TIM3_CH1,EVENTOUT", 41 PB5 (io) "PB5/SPI1_MOSI,I2S1_SD,I2C1_SMBA,TIM16_BKIN,TIM3_CH2", 42 PB6 (io) "PB6/I2C1_SCL,USART1_TX,TIM16_CH1N", 43 PB7 (io) "PB7/I2C1_SDA,USART1_RX,TIM17_CH1N", 44 BOOT0 (in) "Boot memory selection", 45 PB8 (io) "PB8/I2C1_SCL,TIM16_CH1", 46 PB9 (io) "PB9/I2C1_SDA,IR_OUT,TIM17_CH1,EVENTOUT"
part B pins: 1 VBAT (power) "Backup power supply", 8 VSSA (power) "Analog ground", 9 VDDA (power) "Analog power supply", 23 VSS (power) "Ground", 24 VDD (power) "Digital power supply", 47 VSS (power) "Ground", 48 VDD (power) "Digital power supply"

## STM32F050C6T6
designator U?
ARM Cortex-M0 32-bit MCU, 32 KB Flash, 4 KB Internal RAM, 39 I/Os, 48-pin LQFP, -40 to 85 degC, Tray; PartNumber: STM32F050C6T6; FLASH Size (Prog) (kB): 32; I/Os (High Current): 39; Internal RAM Size (kB): 4; Operating Frequency(F) (Processor speed) (MHz): 48; Supply Voltage(Vcc) min (V): 2; DatasheetVersion: Rev. 1; PackageVersion: Rev. 6, 06/2013; PackageReference: LQFP48; PackageDescription: 48-Pin Low Profile Quad Flat Package, 7 x 7 mm Body, 0.5 mm Pitch; Supplier 1: Digi-Key; Supplier Part Number 1: 497-13618-ND; Supplier 2: Farnell; Supplier Part Number 2: 2333134; Supplier 3: Newark; Supplier Part Number 3: 99W9746; Supplier 4: Newark; Supplier Part Number 4: 48W6863; Supplier 5: Mouser; Supplier Part Number 5: 511-STM32F050C6T6; Core: ARM Cortex-M0; Packing: Tray; Mounting Technology: Surface Mount; ComponentLink1Description: Manufacturer URL; ComponentLink1URL: http://www.st.com/web/en/home.html; ComponentLink2Description: Datasheet; ComponentLink2URL: http://www.st.com/st-web-ui/static/active/en/resource/technical/document/datasheet/DM00065136.pdf; ComponentLink3Description: Package Specification; ComponentLink3URL: http://www.st.com/st-web-ui/static/active/en/resource/technical/document/datasheet/DM00058181.pdf
footprint STM-LQFP48_N (QFP, 48-Leads, Body 7x7mm, Pitch 0.5mm, IPC Medium Density)
footprint STM-LQFP48_L (QFP, 48-Leads, Body 7x7mm, Pitch 0.5mm, IPC High Density)
footprint STM-LQFP48_M (QFP, 48-Leads, Body 7x7mm, Pitch 0.5mm, IPC Low Density)
part A pins: 2 PC13 (io) "PC13/RTC_TAMP1,RTC_TS,RTC_OUT,WKUP2", 3 PC14-OSC32_IN(PC14) (io) "PC14-OSC32_IN(PC14)/OSC32_IN", 4 PC15-OSC32_OUT(PC15) (io) "PC15-OSC32_OUT(PC15)/OSC32_OUT", 5 PF0-OSC_IN(PF0) (io) "PF0-OSC_IN(PF0)/OSC_IN", 6 PF1-OSC_OUT(PF1) (io) "PF1-OSC_OUT(PF1)/OSC_OUT", 7 NRST (io) "Device reset input / internal reset output (active low)", 10 PA0 (io) "PA0/TIM2_CH1_ETR,USART1_CTS/ADC_IN0,RTC_TAMP2,WKUP1", 11 PA1 (io) "PA1/TIM2_CH2,EVENTOUT,USART1_RTS/ADC_IN1", 12 PA2 (io) "PA2/TIM2_CH3,USART1_TX/ADC_IN2", 13 PA3 (io) "PA3/TIM2_CH4,USART1_RX/ADC_IN3", 14 PA4 (io) "PA4/SPI1_NSS,I2S1_WS,TIM14_CH1,USART1_CK/ADC_IN4", 15 PA5 (io) "PA5/SPI1_SCK,I2S1_CK,TIM2_CH1_ETR/ADC_IN5", 16 PA6 (io) "PA6/SPI1_MISO,I2S1_MCK,TIM3_CH1,TIM1_BKIN,TIM16_CH1,EVENTOUT/ADC_IN6", 17 PA7 (io) "PA7/SPI1_MOSI,I2S1_SD,TIM3_CH2,TIM14_CH1,TIM1_CH1N,TIM17_CH1,EVENTOUT/ADC_IN7", 18 PB0 (io) "PB0/TIM3_CH3,TIM1_CH2N,EVENTOUT/ADC_IN8", 19 PB1 (io) "PB1/TIM3_CH4,TIM14_CH1,TIM1_CH3N/ADC_IN9", 20 PB2 (io), 21 PB10 (io) "PB10/TIM2_CH3,I2C1_SCL", 22 PB11 (io) "PB11/TIM2_CH4,EVENTOUT,I2C1_SDA", 25 PB12 (io) "PB12/TIM1_BKIN,EVENTOUT,SPI1_NSS", 26 PB13 (io) "PB13/TIM1_CH1N,SPI1_SCK", 27 PB14 (io) "PB14/TIM1_CH2N,SPI1_MISO", 28 PB15 (io) "PB15/TIM1_CH3N,SPI1_MOSI/RTC_REFIN", 29 PA8 (io) "PA8/USART1_CK,TIM1_CH1,EVENTOUT,MCO", 30 PA9 (io) "PA9/USART1_TX,TIM1_CH2,I2C1_SCL", 31 PA10 (io) "PA10/USART1_RX,TIM1_CH3,TIM17_BKIN,I2C1_SDA", 32 PA11 (io) "PA11/USART1_CTS,TIM1_CH4,EVENTOUT", 33 PA12 (io) "PA12/USART1_RTS,TIM1_ETR,EVENTOUT", 34 PA13(SWDAT) (io) "PA13(SWDAT)/IR_OUT,SWDAT", 35 PF6 (io) "PF6/I2C1_SCL", 36 PF7 (io) "PF7/I2C1_SDA", 37 PA14(SWCLK) (io) "PA14(SWCLK)/SWCLK,USART1_TX", 38 PA15 (io) "PA15/SPI1_NSS,I2S1_WS,TIM2_CH_ETR,EVENTOUT,USART1_RX", 39 PB3 (io) "PB3/SPI1_SCK,I2S1_CK,TIM2_CH2,EVENTOUT", 40 PB4 (io) "PB4/SPI1_MISO,I2S1_MCK,TIM3_CH1,EVENTOUT", 41 PB5 (io) "PB5/SPI1_MOSI,I2S1_SD,I2C1_SMBA,TIM16_BKIN,TIM3_CH2", 42 PB6 (io) "PB6/I2C1_SCL,USART1_TX,TIM16_CH1N", 43 PB7 (io) "PB7/I2C1_SDA,USART1_RX,TIM17_CH1N", 44 BOOT0 (in) "Boot memory selection", 45 PB8 (io) "PB8/I2C1_SCL,TIM16_CH1", 46 PB9 (io) "PB9/I2C1_SDA,IR_OUT,TIM17_CH1,EVENTOUT"
part B pins: 1 VBAT (power) "Backup power supply", 8 VSSA (power) "Analog ground", 9 VDDA (power) "Analog power supply", 23 VSS (power) "Ground", 24 VDD (power) "Digital power supply", 47 VSS (power) "Ground", 48 VDD (power) "Digital power supply"

## STM32F050C6T6A
designator U?
ARM Cortex-M0 32-bit MCU, 32 KB Flash, 4 KB Internal RAM, 39 I/Os, 48-pin LQFP, -40 to 85 degC, Tray; PartNumber: STM32F050C6T6A; FLASH Size (Prog) (kB): 32; I/Os (High Current): 39; Internal RAM Size (kB): 4; Operating Frequency(F) (Processor speed) (MHz): 48; Supply Voltage(Vcc) min (V): 2; DatasheetVersion: Rev. 1; PackageVersion: Rev. 6, 06/2013; PackageReference: LQFP48; PackageDescription: 48-Pin Low Profile Quad Flat Package, 7 x 7 mm Body, 0.5 mm Pitch; Supplier 1: Digi-Key; Supplier Part Number 1: 497-12994-ND; Supplier 2: Farnell; Supplier Part Number 2: 2115059; Supplier 3: Newark; Supplier Part Number 3: 90T0645; Supplier 4: Mouser; Supplier Part Number 4: 511-STM32F050C6T6A; Core: ARM Cortex-M0; Packing: Tray; Mounting Technology: Surface Mount; ComponentLink1Description: Manufacturer URL; ComponentLink1URL: http://www.st.com/web/en/home.html; ComponentLink2Description: Datasheet; ComponentLink2URL: http://www.st.com/st-web-ui/static/active/en/resource/technical/document/datasheet/DM00065136.pdf; ComponentLink3Description: Package Specification; ComponentLink3URL: http://www.st.com/st-web-ui/static/active/en/resource/technical/document/datasheet/DM00058181.pdf
footprint STM-LQFP48_N (QFP, 48-Leads, Body 7x7mm, Pitch 0.5mm, IPC Medium Density)
footprint STM-LQFP48_L (QFP, 48-Leads, Body 7x7mm, Pitch 0.5mm, IPC High Density)
footprint STM-LQFP48_M (QFP, 48-Leads, Body 7x7mm, Pitch 0.5mm, IPC Low Density)
part A pins: 2 PC13 (io) "PC13/RTC_TAMP1,RTC_TS,RTC_OUT,WKUP2", 3 PC14-OSC32_IN(PC14) (io) "PC14-OSC32_IN(PC14)/OSC32_IN", 4 PC15-OSC32_OUT(PC15) (io) "PC15-OSC32_OUT(PC15)/OSC32_OUT", 5 PF0-OSC_IN(PF0) (io) "PF0-OSC_IN(PF0)/OSC_IN", 6 PF1-OSC_OUT(PF1) (io) "PF1-OSC_OUT(PF1)/OSC_OUT", 7 NRST (io) "Device reset input / internal reset output (active low)", 10 PA0 (io) "PA0/TIM2_CH1_ETR,USART1_CTS/ADC_IN0,RTC_TAMP2,WKUP1", 11 PA1 (io) "PA1/TIM2_CH2,EVENTOUT,USART1_RTS/ADC_IN1", 12 PA2 (io) "PA2/TIM2_CH3,USART1_TX/ADC_IN2", 13 PA3 (io) "PA3/TIM2_CH4,USART1_RX/ADC_IN3", 14 PA4 (io) "PA4/SPI1_NSS,I2S1_WS,TIM14_CH1,USART1_CK/ADC_IN4", 15 PA5 (io) "PA5/SPI1_SCK,I2S1_CK,TIM2_CH1_ETR/ADC_IN5", 16 PA6 (io) "PA6/SPI1_MISO,I2S1_MCK,TIM3_CH1,TIM1_BKIN,TIM16_CH1,EVENTOUT/ADC_IN6", 17 PA7 (io) "PA7/SPI1_MOSI,I2S1_SD,TIM3_CH2,TIM14_CH1,TIM1_CH1N,TIM17_CH1,EVENTOUT/ADC_IN7", 18 PB0 (io) "PB0/TIM3_CH3,TIM1_CH2N,EVENTOUT/ADC_IN8", 19 PB1 (io) "PB1/TIM3_CH4,TIM14_CH1,TIM1_CH3N/ADC_IN9", 20 PB2 (io), 21 PB10 (io) "PB10/TIM2_CH3,I2C1_SCL", 22 PB11 (io) "PB11/TIM2_CH4,EVENTOUT,I2C1_SDA", 25 PB12 (io) "PB12/TIM1_BKIN,EVENTOUT,SPI1_NSS", 26 PB13 (io) "PB13/TIM1_CH1N,SPI1_SCK", 27 PB14 (io) "PB14/TIM1_CH2N,SPI1_MISO", 28 PB15 (io) "PB15/TIM1_CH3N,SPI1_MOSI/RTC_REFIN", 29 PA8 (io) "PA8/USART1_CK,TIM1_CH1,EVENTOUT,MCO", 30 PA9 (io) "PA9/USART1_TX,TIM1_CH2,I2C1_SCL", 31 PA10 (io) "PA10/USART1_RX,TIM1_CH3,TIM17_BKIN,I2C1_SDA", 32 PA11 (io) "PA11/USART1_CTS,TIM1_CH4,EVENTOUT", 33 PA12 (io) "PA12/USART1_RTS,TIM1_ETR,EVENTOUT", 34 PA13(SWDAT) (io) "PA13(SWDAT)/IR_OUT,SWDAT", 35 PF6 (io) "PF6/I2C1_SCL", 36 PF7 (io) "PF7/I2C1_SDA", 37 PA14(SWCLK) (io) "PA14(SWCLK)/SWCLK,USART1_TX", 38 PA15 (io) "PA15/SPI1_NSS,I2S1_WS,TIM2_CH_ETR,EVENTOUT,USART1_RX", 39 PB3 (io) "PB3/SPI1_SCK,I2S1_CK,TIM2_CH2,EVENTOUT", 40 PB4 (io) "PB4/SPI1_MISO,I2S1_MCK,TIM3_CH1,EVENTOUT", 41 PB5 (io) "PB5/SPI1_MOSI,I2S1_SD,I2C1_SMBA,TIM16_BKIN,TIM3_CH2", 42 PB6 (io) "PB6/I2C1_SCL,USART1_TX,TIM16_CH1N", 43 PB7 (io) "PB7/I2C1_SDA,USART1_RX,TIM17_CH1N", 44 BOOT0 (in) "Boot memory selection", 45 PB8 (io) "PB8/I2C1_SCL,TIM16_CH1", 46 PB9 (io) "PB9/I2C1_SDA,IR_OUT,TIM17_CH1,EVENTOUT"
part B pins: 1 VBAT (power) "Backup power supply", 8 VSSA (power) "Analog ground", 9 VDDA (power) "Analog power supply", 23 VSS (power) "Ground", 24 VDD (power) "Digital power supply", 47 VSS (power) "Ground", 48 VDD (power) "Digital power supply"

## STM32F050C6T6TR
designator U?
ARM Cortex-M0 32-bit MCU, 32 KB Flash, 4 KB Internal RAM, 39 I/Os, 48-pin LQFP, -40 to 85 degC, Tape and Reel; PartNumber: STM32F050C6T6TR; FLASH Size (Prog) (kB): 32; I/Os (High Current): 39; Internal RAM Size (kB): 4; Operating Frequency(F) (Processor speed) (MHz): 48; Supply Voltage(Vcc) min (V): 2; DatasheetVersion: Rev. 1; PackageVersion: Rev. 6, 06/2013; PackageReference: LQFP48; PackageDescription: 48-Pin Low Profile Quad Flat Package, 7 x 7 mm Body, 0.5 mm Pitch; Supplier 1: Digi-Key; Supplier Part Number 1: STM32F050C6T6TR-ND; Supplier 2: Newark; Supplier Part Number 2: 06X3651; Supplier 3: Mouser; Supplier Part Number 3: 511-STM32F050C6T6TR; Core: ARM Cortex-M0; Packing: Tape and Reel; Mounting Technology: Surface Mount; ComponentLink1Description: Manufacturer URL; ComponentLink1URL: http://www.st.com/web/en/home.html; ComponentLink2Description: Datasheet; ComponentLink2URL: http://www.st.com/st-web-ui/static/active/en/resource/technical/document/datasheet/DM00065136.pdf; ComponentLink3Description: Package Specification; ComponentLink3URL: http://www.st.com/st-web-ui/static/active/en/resource/technical/document/datasheet/DM00058181.pdf
footprint STM-LQFP48_N (QFP, 48-Leads, Body 7x7mm, Pitch 0.5mm, IPC Medium Density)
footprint STM-LQFP48_L (QFP, 48-Leads, Body 7x7mm, Pitch 0.5mm, IPC High Density)
footprint STM-LQFP48_M (QFP, 48-Leads, Body 7x7mm, Pitch 0.5mm, IPC Low Density)
part A pins: 2 PC13 (io) "PC13/RTC_TAMP1,RTC_TS,RTC_OUT,WKUP2", 3 PC14-OSC32_IN(PC14) (io) "PC14-OSC32_IN(PC14)/OSC32_IN", 4 PC15-OSC32_OUT(PC15) (io) "PC15-OSC32_OUT(PC15)/OSC32_OUT", 5 PF0-OSC_IN(PF0) (io) "PF0-OSC_IN(PF0)/OSC_IN", 6 PF1-OSC_OUT(PF1) (io) "PF1-OSC_OUT(PF1)/OSC_OUT", 7 NRST (io) "Device reset input / internal reset output (active low)", 10 PA0 (io) "PA0/TIM2_CH1_ETR,USART1_CTS/ADC_IN0,RTC_TAMP2,WKUP1", 11 PA1 (io) "PA1/TIM2_CH2,EVENTOUT,USART1_RTS/ADC_IN1", 12 PA2 (io) "PA2/TIM2_CH3,USART1_TX/ADC_IN2", 13 PA3 (io) "PA3/TIM2_CH4,USART1_RX/ADC_IN3", 14 PA4 (io) "PA4/SPI1_NSS,I2S1_WS,TIM14_CH1,USART1_CK/ADC_IN4", 15 PA5 (io) "PA5/SPI1_SCK,I2S1_CK,TIM2_CH1_ETR/ADC_IN5", 16 PA6 (io) "PA6/SPI1_MISO,I2S1_MCK,TIM3_CH1,TIM1_BKIN,TIM16_CH1,EVENTOUT/ADC_IN6", 17 PA7 (io) "PA7/SPI1_MOSI,I2S1_SD,TIM3_CH2,TIM14_CH1,TIM1_CH1N,TIM17_CH1,EVENTOUT/ADC_IN7", 18 PB0 (io) "PB0/TIM3_CH3,TIM1_CH2N,EVENTOUT/ADC_IN8", 19 PB1 (io) "PB1/TIM3_CH4,TIM14_CH1,TIM1_CH3N/ADC_IN9", 20 PB2 (io), 21 PB10 (io) "PB10/TIM2_CH3,I2C1_SCL", 22 PB11 (io) "PB11/TIM2_CH4,EVENTOUT,I2C1_SDA", 25 PB12 (io) "PB12/TIM1_BKIN,EVENTOUT,SPI1_NSS", 26 PB13 (io) "PB13/TIM1_CH1N,SPI1_SCK", 27 PB14 (io) "PB14/TIM1_CH2N,SPI1_MISO", 28 PB15 (io) "PB15/TIM1_CH3N,SPI1_MOSI/RTC_REFIN", 29 PA8 (io) "PA8/USART1_CK,TIM1_CH1,EVENTOUT,MCO", 30 PA9 (io) "PA9/USART1_TX,TIM1_CH2,I2C1_SCL", 31 PA10 (io) "PA10/USART1_RX,TIM1_CH3,TIM17_BKIN,I2C1_SDA", 32 PA11 (io) "PA11/USART1_CTS,TIM1_CH4,EVENTOUT", 33 PA12 (io) "PA12/USART1_RTS,TIM1_ETR,EVENTOUT", 34 PA13(SWDAT) (io) "PA13(SWDAT)/IR_OUT,SWDAT", 35 PF6 (io) "PF6/I2C1_SCL", 36 PF7 (io) "PF7/I2C1_SDA", 37 PA14(SWCLK) (io) "PA14(SWCLK)/SWCLK,USART1_TX", 38 PA15 (io) "PA15/SPI1_NSS,I2S1_WS,TIM2_CH_ETR,EVENTOUT,USART1_RX", 39 PB3 (io) "PB3/SPI1_SCK,I2S1_CK,TIM2_CH2,EVENTOUT", 40 PB4 (io) "PB4/SPI1_MISO,I2S1_MCK,TIM3_CH1,EVENTOUT", 41 PB5 (io) "PB5/SPI1_MOSI,I2S1_SD,I2C1_SMBA,TIM16_BKIN,TIM3_CH2", 42 PB6 (io) "PB6/I2C1_SCL,USART1_TX,TIM16_CH1N", 43 PB7 (io) "PB7/I2C1_SDA,USART1_RX,TIM17_CH1N", 44 BOOT0 (in) "Boot memory selection", 45 PB8 (io) "PB8/I2C1_SCL,TIM16_CH1", 46 PB9 (io) "PB9/I2C1_SDA,IR_OUT,TIM17_CH1,EVENTOUT"
part B pins: 1 VBAT (power) "Backup power supply", 8 VSSA (power) "Analog ground", 9 VDDA (power) "Analog power supply", 23 VSS (power) "Ground", 24 VDD (power) "Digital power supply", 47 VSS (power) "Ground", 48 VDD (power) "Digital power supply"

## STM32F050C6T7
designator U?
ARM Cortex-M0 32-bit MCU, 32 KB Flash, 4 KB Internal RAM, 39 I/Os, 48-pin LQFP, -40 to 105 degC, Tray; PartNumber: STM32F050C6T7; FLASH Size (Prog) (kB): 32; I/Os (High Current): 39; Internal RAM Size (kB): 4; Operating Frequency(F) (Processor speed) (MHz): 48; Supply Voltage(Vcc) min (V): 2; DatasheetVersion: Rev. 1; PackageVersion: Rev. 6, 06/2013; PackageReference: LQFP48; PackageDescription: 48-Pin Low Profile Quad Flat Package, 7 x 7 mm Body, 0.5 mm Pitch; Supplier 1: Digi-Key; Supplier Part Number 1: STM32F050C6T7-ND; Supplier 2: Farnell; Supplier Part Number 2: 2333344; Supplier 3: Newark; Supplier Part Number 3: 99W9747; Supplier 4: Newark; Supplier Part Number 4: 06X3652; Supplier 5: Mouser; Supplier Part Number 5: 511-STM32F050C6T7; Core: ARM Cortex-M0; Packing: Tray; Mounting Technology: Surface Mount; ComponentLink1Description: Manufacturer URL; ComponentLink1URL: http://www.st.com/web/en/home.html; ComponentLink2Description: Datasheet; ComponentLink2URL: http://www.st.com/st-web-ui/static/active/en/resource/technical/document/datasheet/DM00065136.pdf; ComponentLink3Description: Package Specification; ComponentLink3URL: http://www.st.com/st-web-ui/static/active/en/resource/technical/document/datasheet/DM00058181.pdf
footprint STM-LQFP48_N (QFP, 48-Leads, Body 7x7mm, Pitch 0.5mm, IPC Medium Density)
footprint STM-LQFP48_L (QFP, 48-Leads, Body 7x7mm, Pitch 0.5mm, IPC High Density)
footprint STM-LQFP48_M (QFP, 48-Leads, Body 7x7mm, Pitch 0.5mm, IPC Low Density)
part A pins: 2 PC13 (io) "PC13/RTC_TAMP1,RTC_TS,RTC_OUT,WKUP2", 3 PC14-OSC32_IN(PC14) (io) "PC14-OSC32_IN(PC14)/OSC32_IN", 4 PC15-OSC32_OUT(PC15) (io) "PC15-OSC32_OUT(PC15)/OSC32_OUT", 5 PF0-OSC_IN(PF0) (io) "PF0-OSC_IN(PF0)/OSC_IN", 6 PF1-OSC_OUT(PF1) (io) "PF1-OSC_OUT(PF1)/OSC_OUT", 7 NRST (io) "Device reset input / internal reset output (active low)", 10 PA0 (io) "PA0/TIM2_CH1_ETR,USART1_CTS/ADC_IN0,RTC_TAMP2,WKUP1", 11 PA1 (io) "PA1/TIM2_CH2,EVENTOUT,USART1_RTS/ADC_IN1", 12 PA2 (io) "PA2/TIM2_CH3,USART1_TX/ADC_IN2", 13 PA3 (io) "PA3/TIM2_CH4,USART1_RX/ADC_IN3", 14 PA4 (io) "PA4/SPI1_NSS,I2S1_WS,TIM14_CH1,USART1_CK/ADC_IN4", 15 PA5 (io) "PA5/SPI1_SCK,I2S1_CK,TIM2_CH1_ETR/ADC_IN5", 16 PA6 (io) "PA6/SPI1_MISO,I2S1_MCK,TIM3_CH1,TIM1_BKIN,TIM16_CH1,EVENTOUT/ADC_IN6", 17 PA7 (io) "PA7/SPI1_MOSI,I2S1_SD,TIM3_CH2,TIM14_CH1,TIM1_CH1N,TIM17_CH1,EVENTOUT/ADC_IN7", 18 PB0 (io) "PB0/TIM3_CH3,TIM1_CH2N,EVENTOUT/ADC_IN8", 19 PB1 (io) "PB1/TIM3_CH4,TIM14_CH1,TIM1_CH3N/ADC_IN9", 20 PB2 (io), 21 PB10 (io) "PB10/TIM2_CH3,I2C1_SCL", 22 PB11 (io) "PB11/TIM2_CH4,EVENTOUT,I2C1_SDA", 25 PB12 (io) "PB12/TIM1_BKIN,EVENTOUT,SPI1_NSS", 26 PB13 (io) "PB13/TIM1_CH1N,SPI1_SCK", 27 PB14 (io) "PB14/TIM1_CH2N,SPI1_MISO", 28 PB15 (io) "PB15/TIM1_CH3N,SPI1_MOSI/RTC_REFIN", 29 PA8 (io) "PA8/USART1_CK,TIM1_CH1,EVENTOUT,MCO", 30 PA9 (io) "PA9/USART1_TX,TIM1_CH2,I2C1_SCL", 31 PA10 (io) "PA10/USART1_RX,TIM1_CH3,TIM17_BKIN,I2C1_SDA", 32 PA11 (io) "PA11/USART1_CTS,TIM1_CH4,EVENTOUT", 33 PA12 (io) "PA12/USART1_RTS,TIM1_ETR,EVENTOUT", 34 PA13(SWDAT) (io) "PA13(SWDAT)/IR_OUT,SWDAT", 35 PF6 (io) "PF6/I2C1_SCL", 36 PF7 (io) "PF7/I2C1_SDA", 37 PA14(SWCLK) (io) "PA14(SWCLK)/SWCLK,USART1_TX", 38 PA15 (io) "PA15/SPI1_NSS,I2S1_WS,TIM2_CH_ETR,EVENTOUT,USART1_RX", 39 PB3 (io) "PB3/SPI1_SCK,I2S1_CK,TIM2_CH2,EVENTOUT", 40 PB4 (io) "PB4/SPI1_MISO,I2S1_MCK,TIM3_CH1,EVENTOUT", 41 PB5 (io) "PB5/SPI1_MOSI,I2S1_SD,I2C1_SMBA,TIM16_BKIN,TIM3_CH2", 42 PB6 (io) "PB6/I2C1_SCL,USART1_TX,TIM16_CH1N", 43 PB7 (io) "PB7/I2C1_SDA,USART1_RX,TIM17_CH1N", 44 BOOT0 (in) "Boot memory selection", 45 PB8 (io) "PB8/I2C1_SCL,TIM16_CH1", 46 PB9 (io) "PB9/I2C1_SDA,IR_OUT,TIM17_CH1,EVENTOUT"
part B pins: 1 VBAT (power) "Backup power supply", 8 VSSA (power) "Analog ground", 9 VDDA (power) "Analog power supply", 23 VSS (power) "Ground", 24 VDD (power) "Digital power supply", 47 VSS (power) "Ground", 48 VDD (power) "Digital power supply"

## STM32F050F4P6
designator U?
ARM Cortex-M0 32-bit MCU, 16 KB Flash, 4 KB Internal RAM, 15 I/Os, 20-pin TSSOP, -40 to 85 degC, Tube; PartNumber: STM32F050F4P6; FLASH Size (Prog) (kB): 16; I/Os (High Current): 15; Internal RAM Size (kB): 4; Operating Frequency(F) (Processor speed) (MHz): 48; Supply Voltage(Vcc) min (V): 2; DatasheetVersion: Rev. 1; PackageVersion: Rev. 1, 11/2012; PackageReference: TSSOP20; PackageDescription: 20-Pin Thin Shrink Small Outline Package, 6.5 x 4.4 mm Body, 0.65 mm Pitch; Supplier 1: Digi-Key; Supplier Part Number 1: STM32F050F4P6-ND; Supplier 2: Newark; Supplier Part Number 2: 99W9748; Supplier 3: Newark; Supplier Part Number 3: 89W1488; Supplier 4: Mouser; Supplier Part Number 4: 511-STM32F050F4P6; Core: ARM Cortex-M0; Packing: Tube; Mounting Technology: Surface Mount; ComponentLink1Description: Manufacturer URL; ComponentLink1URL: http://www.st.com/web/en/home.html; ComponentLink2Description: Datasheet; ComponentLink2URL: http://www.st.com/st-web-ui/static/active/en/resource/technical/document/datasheet/DM00065136.pdf; ComponentLink3Description: Package Specification; ComponentLink3URL: http://www.st.com/st-web-ui/static/active/en/resource/technical/document/datasheet/DM00065136.pdf
footprint STM-TSSOP20_N (SOP, 20-Leads, Body 6.6x4.5mm, Pitch 0.65mm, IPC Medium Density)
footprint STM-TSSOP20_L (SOP, 20-Leads, Body 6.6x4.5mm, Pitch 0.65mm, IPC High Density)
footprint STM-TSSOP20_M (SOP, 20-Leads, Body 6.6x4.5mm, Pitch 0.65mm, IPC Low Density)
pins: 1 BOOT0 (in) "Boot memory selection", 2 PF0-OSC_IN(PF0) (io) "PF0-OSC_IN(PF0)/OSC_IN", 3 PF1-OSC_OUT(PF1) (io) "PF1-OSC_OUT(PF1)/OSC_OUT", 4 NRST (io) "Device reset input / internal reset output (active low)", 5 VDDA (power) "Analog power supply", 6 PA0 (io) "PA0/TIM2_CH1_ETR,USART1_CTS/ADC_IN0,RTC_TAMP2,WKUP1", 7 PA1 (io) "PA1/TIM2_CH2,EVENTOUT,USART1_RTS/ADC_IN1", 8 PA2 (io) "PA2/TIM2_CH3,USART1_TX/ADC_IN2", 9 PA3 (io) "PA3/TIM2_CH4,USART1_RX/ADC_IN3", 10 PA4 (io) "PA4/SPI1_NSS,I2S1_WS,TIM14_CH1,USART1_CK/ADC_IN4", 11 PA5 (io) "PA5/SPI1_SCK,I2S1_CK,TIM2_CH1_ETR/ADC_IN5", 12 PA6 (io) "PA6/SPI1_MISO,I2S1_MCK,TIM3_CH1,TIM1_BKIN,TIM16_CH1,EVENTOUT/ADC_IN6", 13 PA7 (io) "PA7/SPI1_MOSI,I2S1_SD,TIM3_CH2,TIM14_CH1,TIM1_CH1N,TIM17_CH1,EVENTOUT/ADC_IN7", 14 PB1 (io) "PB1/TIM3_CH4,TIM14_CH1,TIM1_CH3N/ADC_IN9", 15 VSS (power) "Ground", 16 VDD (power) "Digital power supply", 17 PA9 (io) "PA9/USART1_TX,TIM1_CH2,I2C1_SCL", 18 PA10 (io) "PA10/USART1_RX,TIM1_CH3,TIM17_BKIN,I2C1_SDA", 19 PA13(SWDAT) (io) "PA13(SWDAT)/IR_OUT,SWDAT", 20 PA14(SWCLK) (io) "PA14(SWCLK)/SWCLK,USART1_TX"

## STM32F050F6CIR
designator U?
ARM Cortex-M0 32-bit MCU, 32 KB Flash, 4 KB Internal RAM, 15 I/Os, 20-pin TSSOP, -40 to 85 degC, Tube; PartNumber: STM32F050F6CIR; FLASH Size (Prog) (kB): 32; I/Os (High Current): 15; Internal RAM Size (kB): 4; Operating Frequency(F) (Processor speed) (MHz): 48; Supply Voltage(Vcc) min (V): 2; DatasheetVersion: Rev. 1; PackageVersion: Rev. 1, 11/2012; PackageReference: TSSOP20; PackageDescription: 20-Pin Thin Shrink Small Outline Package, 6.5 x 4.4 mm Body, 0.65 mm Pitch; Supplier 1: Mouser; Supplier Part Number 1: N/A; Core: ARM Cortex-M0; Packing: Tube; Mounting Technology: Surface Mount; ComponentLink1Description: Manufacturer URL; ComponentLink1URL: http://www.st.com/web/en/home.html; ComponentLink2Description: Datasheet; ComponentLink2URL: http://www.st.com/st-web-ui/static/active/en/resource/technical/document/datasheet/DM00065136.pdf; ComponentLink3Description: Package Specification; ComponentLink3URL: http://www.st.com/st-web-ui/static/active/en/resource/technical/document/datasheet/DM00065136.pdf
footprint STM-TSSOP20_N (SOP, 20-Leads, Body 6.6x4.5mm, Pitch 0.65mm, IPC Medium Density)
footprint STM-TSSOP20_L (SOP, 20-Leads, Body 6.6x4.5mm, Pitch 0.65mm, IPC High Density)
footprint STM-TSSOP20_M (SOP, 20-Leads, Body 6.6x4.5mm, Pitch 0.65mm, IPC Low Density)
pins: 1 BOOT0 (in) "Boot memory selection", 2 PF0-OSC_IN(PF0) (io) "PF0-OSC_IN(PF0)/OSC_IN", 3 PF1-OSC_OUT(PF1) (io) "PF1-OSC_OUT(PF1)/OSC_OUT", 4 NRST (io) "Device reset input / internal reset output (active low)", 5 VDDA (power) "Analog power supply", 6 PA0 (io) "PA0/TIM2_CH1_ETR,USART1_CTS/ADC_IN0,RTC_TAMP2,WKUP1", 7 PA1 (io) "PA1/TIM2_CH2,EVENTOUT,USART1_RTS/ADC_IN1", 8 PA2 (io) "PA2/TIM2_CH3,USART1_TX/ADC_IN2", 9 PA3 (io) "PA3/TIM2_CH4,USART1_RX/ADC_IN3", 10 PA4 (io) "PA4/SPI1_NSS,I2S1_WS,TIM14_CH1,USART1_CK/ADC_IN4", 11 PA5 (io) "PA5/SPI1_SCK,I2S1_CK,TIM2_CH1_ETR/ADC_IN5", 12 PA6 (io) "PA6/SPI1_MISO,I2S1_MCK,TIM3_CH1,TIM1_BKIN,TIM16_CH1,EVENTOUT/ADC_IN6", 13 PA7 (io) "PA7/SPI1_MOSI,I2S1_SD,TIM3_CH2,TIM14_CH1,TIM1_CH1N,TIM17_CH1,EVENTOUT/ADC_IN7", 14 PB1 (io) "PB1/TIM3_CH4,TIM14_CH1,TIM1_CH3N/ADC_IN9", 15 VSS (power) "Ground", 16 VDD (power) "Digital power supply", 17 PA9 (io) "PA9/USART1_TX,TIM1_CH2,I2C1_SCL", 18 PA10 (io) "PA10/USART1_RX,TIM1_CH3,TIM17_BKIN,I2C1_SDA", 19 PA13(SWDAT) (io) "PA13(SWDAT)/IR_OUT,SWDAT", 20 PA14(SWCLK) (io) "PA14(SWCLK)/SWCLK,USART1_TX"

## STM32F050F6CIRTR
designator U?
ARM Cortex-M0 32-bit MCU, 32 KB Flash, 4 KB Internal RAM, 15 I/Os, 20-pin TSSOP, -40 to 85 degC, Tape and Reel; PartNumber: STM32F050F6CIRTR; FLASH Size (Prog) (kB): 32; I/Os (High Current): 15; Internal RAM Size (kB): 4; Operating Frequency(F) (Processor speed) (MHz): 48; Supply Voltage(Vcc) min (V): 2; DatasheetVersion: Rev. 1; PackageVersion: Rev. 1, 11/2012; PackageReference: TSSOP20; PackageDescription: 20-Pin Thin Shrink Small Outline Package, 6.5 x 4.4 mm Body, 0.65 mm Pitch; Supplier 1: Mouser; Supplier Part Number 1: N/A; Core: ARM Cortex-M0; Packing: Tape and Reel; Mounting Technology: Surface Mount; ComponentLink1Description: Manufacturer URL; ComponentLink1URL: http://www.st.com/web/en/home.html; ComponentLink2Description: Datasheet; ComponentLink2URL: http://www.st.com/st-web-ui/static/active/en/resource/technical/document/datasheet/DM00065136.pdf; ComponentLink3Description: Package Specification; ComponentLink3URL: http://www.st.com/st-web-ui/static/active/en/resource/technical/document/datasheet/DM00065136.pdf
footprint STM-TSSOP20_N (SOP, 20-Leads, Body 6.6x4.5mm, Pitch 0.65mm, IPC Medium Density)
footprint STM-TSSOP20_L (SOP, 20-Leads, Body 6.6x4.5mm, Pitch 0.65mm, IPC High Density)
footprint STM-TSSOP20_M (SOP, 20-Leads, Body 6.6x4.5mm, Pitch 0.65mm, IPC Low Density)
pins: 1 BOOT0 (in) "Boot memory selection", 2 PF0-OSC_IN(PF0) (io) "PF0-OSC_IN(PF0)/OSC_IN", 3 PF1-OSC_OUT(PF1) (io) "PF1-OSC_OUT(PF1)/OSC_OUT", 4 NRST (io) "Device reset input / internal reset output (active low)", 5 VDDA (power) "Analog power supply", 6 PA0 (io) "PA0/TIM2_CH1_ETR,USART1_CTS/ADC_IN0,RTC_TAMP2,WKUP1", 7 PA1 (io) "PA1/TIM2_CH2,EVENTOUT,USART1_RTS/ADC_IN1", 8 PA2 (io) "PA2/TIM2_CH3,USART1_TX/ADC_IN2", 9 PA3 (io) "PA3/TIM2_CH4,USART1_RX/ADC_IN3", 10 PA4 (io) "PA4/SPI1_NSS,I2S1_WS,TIM14_CH1,USART1_CK/ADC_IN4", 11 PA5 (io) "PA5/SPI1_SCK,I2S1_CK,TIM2_CH1_ETR/ADC_IN5", 12 PA6 (io) "PA6/SPI1_MISO,I2S1_MCK,TIM3_CH1,TIM1_BKIN,TIM16_CH1,EVENTOUT/ADC_IN6", 13 PA7 (io) "PA7/SPI1_MOSI,I2S1_SD,TIM3_CH2,TIM14_CH1,TIM1_CH1N,TIM17_CH1,EVENTOUT/ADC_IN7", 14 PB1 (io) "PB1/TIM3_CH4,TIM14_CH1,TIM1_CH3N/ADC_IN9", 15 VSS (power) "Ground", 16 VDD (power) "Digital power supply", 17 PA9 (io) "PA9/USART1_TX,TIM1_CH2,I2C1_SCL", 18 PA10 (io) "PA10/USART1_RX,TIM1_CH3,TIM17_BKIN,I2C1_SDA", 19 PA13(SWDAT) (io) "PA13(SWDAT)/IR_OUT,SWDAT", 20 PA14(SWCLK) (io) "PA14(SWCLK)/SWCLK,USART1_TX"